# EAGLE library part 1554ТМ9 (library std-logic-1554series)
АЕЯР.431200.182-13 ТУ 1554ТМ9 - Шесть D-триггеров. Изготовитель: ОАО "ИНТЕГРАЛ", г. Минск, р. Беларусь. Технические условия (ТБМ): АЕЯР.431200.182-13 ТУ Технические условия (не ТБМ): АЕЯР.431200.093-01 ТУ
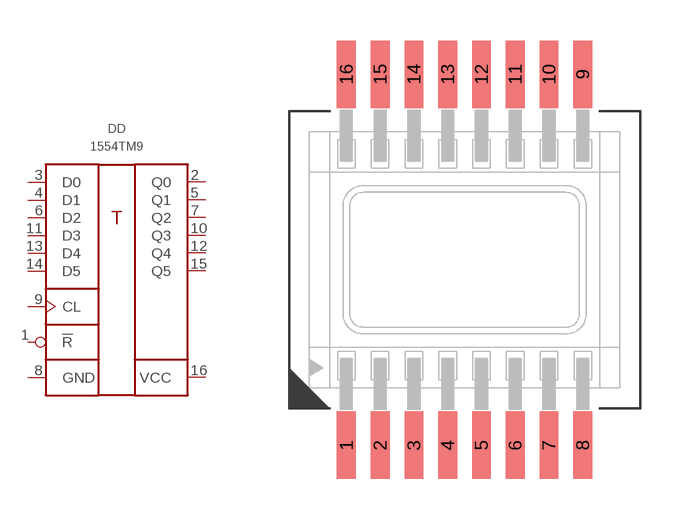
[diagram p1: symbol with the pads of 402.16-32; footprint 402.16-32]

Designator prefix DD

## 1554ТМ9ТБМ  [402.16-32]
1  !R  in
2  Q0  out
3  D0  in
4  D1  in
5  Q1  out
6  D2  in
7  Q2  out
8  GND  pwr
9  CL  in
10  Q3  out
11  D3  in
12  Q4  out
13  D4  in
14  D5  in
15  Q5  out
16  VCC  pwr

## Footprint 402.16-32 (pad centres in mm)
smd 0.7 x 2.5: 1 -4.375,-6.875; 2 -3.125,-6.875; 3 -1.875,-6.875; 4 -0.625,-6.875; 5 0.625,-6.875; 6 1.875,-6.875; 7 3.125,-6.875; 8 4.375,-6.875; 9 4.375,6.875; 10 3.125,6.875; 11 1.875,6.875; 12 0.625,6.875; 13 -0.625,6.875; 14 -1.875,6.875; 15 -3.125,6.875; 16 -4.375,6.875